# Altium schematic symbol library 电源.SchLib: 2 symbols
Pins are listed as number, name and electrical type; pins without a type are passive.

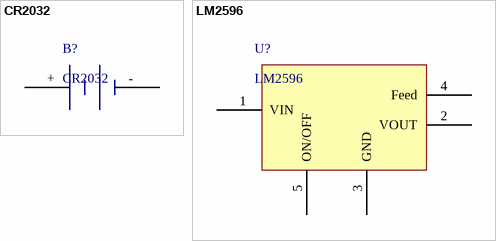
[diagram p0: symbols CR2032 to LM2596]

## CR2032
designator B?
pins: +, -

## LM2596
designator U?
footprint LC-TO-263-5
pins: 1 VIN, 2 VOUT, 3 GND, 4 Feed, 5 ON/OFF